# Altium footprint library HGD_Update-20200515.PcbLib: 19 footprints (part 2 of 2)
Each footprint in its own frame and in the unit in brackets; x right, y up, seen from the top. Pads: shape width x height; smd on the part's side, far side on the other; paste and mask are expansions set on the pad; w line width, h text height; cw(c..) or ccw(c..) is an arc to the next point about the centre after c.
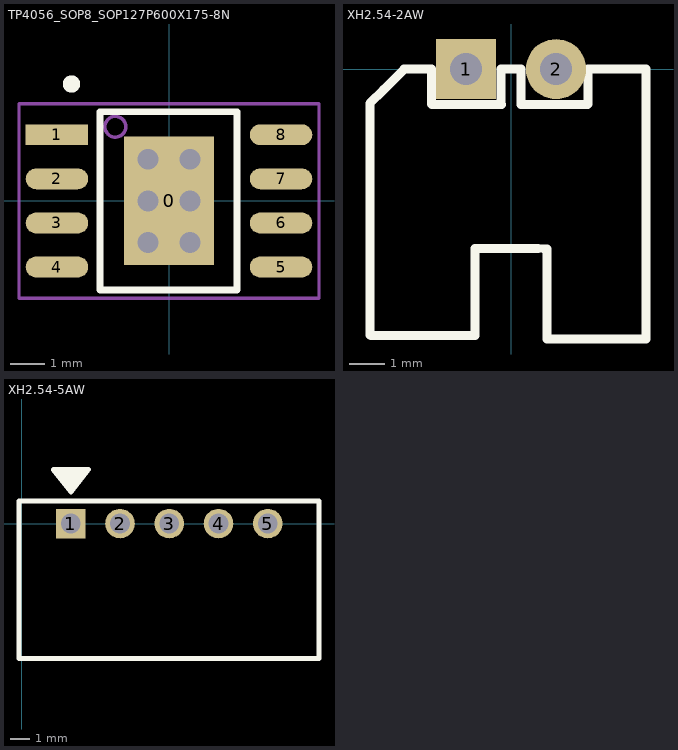
[diagram p1: the footprints below, top view; thin cyan lines are the x and y axes]

## TP4056_SOP8_SOP127P600X175-8N [mm] "SOP, 8-Leads, Body 5.1x4.0mm (max), Pitch 1.27mm, IPC Medium Density"
height 1.75
pads (9):
  rect 2.6x3.7 smd: 0(0,0)
  rect 1.8x0.6 smd: 1(-3.225,1.905)
  oval 1.8x0.6 smd: 2(-3.225,0.635) 3(-3.225,-0.635) 4(-3.225,-1.905) 5(3.225,-1.905) 6(3.225,-0.635) 7(3.225,0.635) 8(3.225,1.905)
via 0.6,-1.2 diameter 1.2 hole 0.6
via -0.6,-1.2 diameter 1.2 hole 0.6
via 0.6,0 diameter 1.2 hole 0.6
via -0.6,0 diameter 1.2 hole 0.6
via 0.6,1.2 diameter 1.2 hole 0.6
via -0.6,1.2 diameter 1.2 hole 0.6
Top Overlay:
  circle w0.25: c-2.806,3.365 r0.125
  lines w0.2: -1.981,-2.565 -1.981,2.565 1.956,2.565 1.956,-2.565 -1.981,-2.565
Mechanical 13:
  circle w0.1: c-1.545,2.134 r0.3
  lines w0.1: -2,-2.55 -2,2.55 2,2.55 2,-2.55 -2,-2.55
Mechanical 15:
  lines w0.1: -0.5,0 0.5,0 ; 0,-0.5 0,0.5 ; -4.318,-2.8 -4.318,2.8 4.318,2.8 4.318,-2.8 -4.318,-2.8
3D body: height 1.75, standoff 0.05, extent -2,-2.55 2,2.55

## XH2.54-2AW [mm] "2.54mm间距, 2P, 弯针插座"
pads (2):
  rect 1.7x1.7 hole 0.9: 1(-1.27,0)
  round 1.7 hole 0.9: 2(1.27,0)
Top Overlay:
  lines w0.254: 2.164,0 2.164,-0.988 2.15,-1.002 0.284,-1.002 0.284,0 -0.288,0 -0.288,-0.982 -0.274,-0.996 -2.23,-0.996 -2.244,-0.982 -2.244,0 -3.02,0 -3.602,-0.582 -3.986,-0.966 -3.986,-7.502 -3.96,-7.528 -1.016,-7.528 -1.016,-5.058 0.762,-5.058 1.016,-5.08 1.016,-7.62 1.27,-7.62 3.81,-7.62 3.81,0 2.774,0 2.176,0
3D body "XH2.54-2P_H.STEP": height 5.73, standoff -3.37, extent -3.77,-7.35 3.77,0.35

## XH2.54-5AW [mm] "XH2.54-5P弯针插座"
height 5.7
pads (5):
  rect 1.5x1.5 hole 1: 1(2.5,0)
  round 1.5 hole 1: 2(5,0) 3(7.5,0) 4(10,0) 5(12.5,0)
Top Overlay:
  lines w0.254: 1.618,2.745 3.385,2.745 ; 1.816,2.491 3.188,2.491 ; 1.867,2.426 1.867,2.752 ; 2.014,2.237 2.99,2.237 ; 2.121,2.099 2.121,2.752 ; 2.211,1.983 2.792,1.983 ; 2.375,1.773 2.375,2.752 ; 2.409,1.729 2.595,1.729 ; 2.629,1.773 2.629,2.752 ; 2.883,2.099 2.883,2.752 ; 3.137,2.426 3.137,2.752 ; -0.127,-6.858 15.1,-6.858 15.1,1.143 -0.127,1.143 -0.127,-6.858 ; 1.613,2.752 3.391,2.752 2.502,1.609 1.613,2.752
Bottom Overlay:
  lines w0.254: 1.76,2.593 3.29,2.593 ; 1.788,2.557 1.788,2.752 ; 1.958,2.339 3.092,2.339 ; 2.042,2.23 2.042,2.752 ; 2.155,2.085 2.895,2.085 ; 2.296,1.903 2.296,2.752 ; 2.353,1.831 2.697,1.831 ; 2.55,1.642 2.55,2.752 ; 2.804,1.969 2.804,2.752 ; 3.058,2.295 3.058,2.752 ; 3.312,2.622 3.312,2.752 ; 1.636,2.752 2.525,1.609 3.414,2.752 1.636,2.752